# Altium footprint library poleviki.PcbLib: 2 footprints
Each footprint in its own frame and in the unit in brackets; x right, y up, seen from the top. Pads: shape width x height; smd on the part's side, far side on the other; paste and mask are expansions set on the pad; w line width, h text height; cw(c..) or ccw(c..) is an arc to the next point about the centre after c.
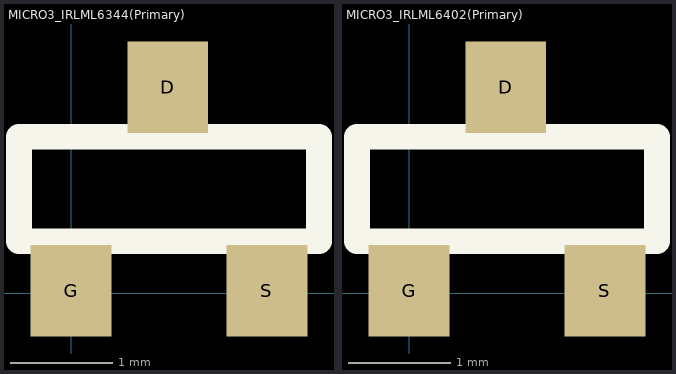
[diagram p0: the footprints below, top view; thin cyan lines are the x and y axes]

## MICRO3_IRLML6344(Primary) [mil]
pads (3):
  rect 31x35 smd: D(37,79) G(0,1) S(75,1)
Top Overlay:
  lines w9.8: -20,20 95,20 95,60 -20,60 -20,20

## MICRO3_IRLML6402(Primary) [mil]
pads (3):
  rect 31x35 smd: D(37,79) G(0,1) S(75,1)
Top Overlay:
  lines w9.8: -20,20 -20,60 95,60 95,20 -20,20